# EAGLE library part EYSGJNZ (library mylibrary)
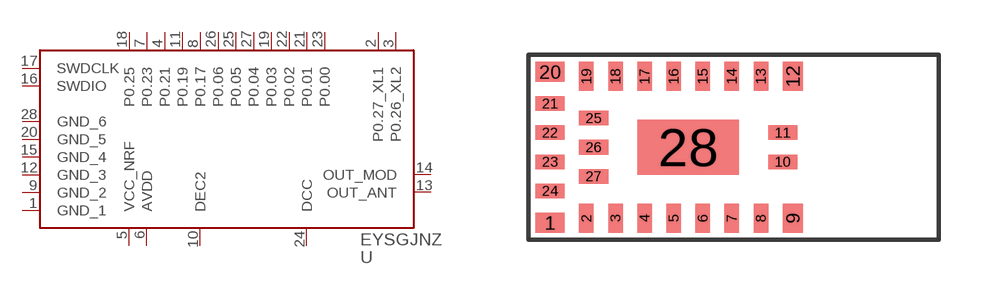
[diagram p6: symbol with the pads of TAIYOYUDEN_BT_XXXXJN; footprint TAIYOYUDEN_BT_XXXXJN]

Designator prefix -

## EYSGJNZWY (RAM: 32KB; SOFTDEVICE: S120), EYSGJNZXX (RAM: 16KB; SOFTDEVICE: S110)  [TAIYOYUDEN_BT_XXXXJN]
1  GND_1
2  P0.27_XL1
3  P0.26_XL2
4  P0.21
5  VCC_NRF
6  AVDD
7  P0.23
8  P0.17
9  GND_2
10  DEC2
11  P0.19
12  GND_3
13  OUT_ANT
14  OUT_MOD
15  GND_4
16  SWDIO
17  SWDCLK
18  P0.25
19  P0.03
20  GND_5
21  P0.01
22  P0.02
23  P0.00
24  DCC
25  P0.05
26  P0.06
27  P0.04
28  GND_6

## Footprint TAIYOYUDEN_BT_XXXXJN (pad centres in mm)
TAIYO YUDEN tiny BT module
smd 0.8 x 0.55: 1 0.6,0.475; 20 0.6,4.625
smd 0.4 x 0.8: 2 1.6,0.6; 3 2.4,0.6; 4 3.2,0.6; 5 4,0.6; 6 4.8,0.6; 7 5.6,0.6; 8 6.4,0.6; 13 6.4,4.5; 14 5.6,4.5; 15 4.8,4.5; 16 4,4.5; 17 3.2,4.5; 18 2.4,4.5; 19 1.6,4.5
smd 0.55 x 0.8: 9 7.275,0.6; 12 7.275,4.5
smd 0.8 x 0.4: 10 7,2.15; 11 7,2.95; 21 0.6,3.75; 22 0.6,2.95; 23 0.6,2.15; 24 0.6,1.35; 25 1.8,3.35; 26 1.8,2.55; 27 1.8,1.75
smd 2.8 x 1.5: 28 4.4,2.55